# Altium footprint library LHBP-9SLOT-VP1.PcbLib: 14 footprints
Each footprint in its own frame and in the unit in brackets; x right, y up, seen from the top. Pads: shape width x height; smd on the part's side, far side on the other; paste and mask are expansions set on the pad; w line width, h text height; cw(c..) or ccw(c..) is an arc to the next point about the centre after c.
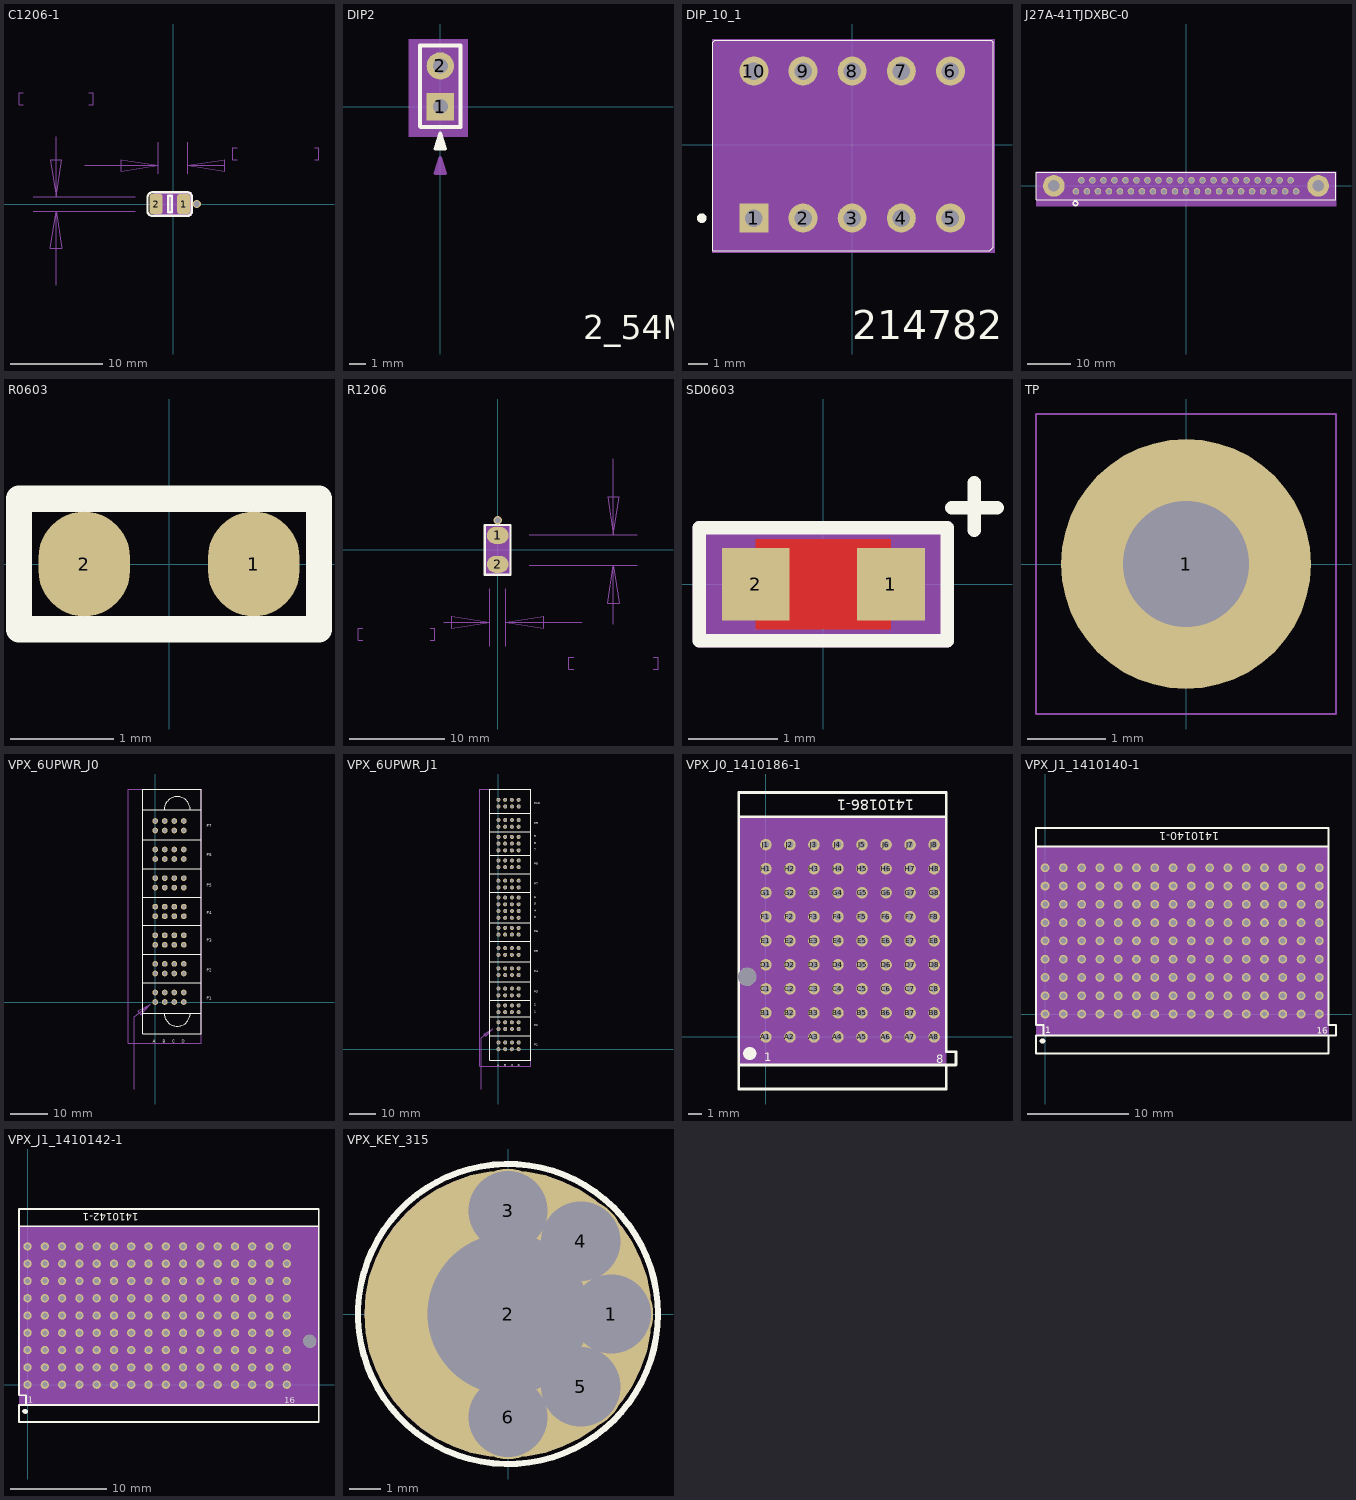
[diagram p0: the footprints below, top view; thin cyan lines are the x and y axes]

## C1206-1 [mil] "C1206-1"
pads (2):
  rrect36% 55x85 smd: 1(45.28,0) 2(-72.84,0)
via 100.78,0 diameter 36 hole 24
Top Layer:
  lines w12: 45.28,0 100.78,0
Top Overlay:
  lines w9.84: -60.78,-50.5 -88.34,-50.5 cw(c-88.34,-29.55) -109.29,-29.55 -109.29,27.4 cw(c-86.19,27.4) -86.19,50.5 -60.78,50.5
  lines w10: -60.78,-50.5 60.78,-50.5 ccw(c60.78,-30.5) 80.78,-30.5 80.78,30.5 ccw(c60.78,30.5) 60.78,50.5 -60.78,50.5 ; -21.18,-35 -21.18,35 -5.44,35 -5.44,-35 -21.18,-35
Mechanical 15:
  lines w1: -639.95,425 -658.94,425 -658.94,475 -639.95,475 ; -598.43,-31.5 -161.42,-31.5 ; -598.43,31.5 -161.42,31.5 ; -500,-346.46 -500,-31.5 ; -500,287.5 -500,31.5 ; -377.95,165 -62.99,165 ; -360.04,425 -341.05,425 -341.05,475 -360.04,475 ; -62.99,129.93 -62.99,263.43 ; 62.99,129.93 62.99,263.43 ; 218.07,165 62.99,165 ; 274.56,190 255.57,190 255.57,240 274.56,240 ; 605.45,190 624.44,190 624.44,240 605.45,240 ; -500,-31.5 -475.4,-188.98 -524.6,-188.98 -500,-31.5 ; -500,31.5 -524.6,188.98 -475.4,188.98 -500,31.5 ; -62.99,165 -220.47,140.4 -220.47,189.6 -62.99,165 ; 62.99,165 220.47,189.6 220.47,140.4 62.99,165
  text "63.00" at -379.04,475 h50
  text "1.6" at -430.02,375 h50
  text "125.98" at 586.45,240 h50
  text "3.2" at 509.98,140 h50
Mechanical 16:
  region: 62.99,31.5 62.99,-31.5 -62.99,-31.5 -62.99,31.5
  pour cut-out: 80.78,50.5 80.78,-50.5 -80.78,-50.5 -80.78,50.5
  lines w1: -62.99,-31.5 -62.99,31.5 62.99,31.5 62.99,-31.5 -62.99,-31.5
  text "1" at 35.28,0 h25
  text "2" at -82.84,0 h25
Mechanical 20:
  text ".Designator" at -40,0 h50
3D body: height 150, standoff 0, extent -62.99,-31.5 62.99,31.5

## DIP2 [mm] "DIP2"
pads (2):
  rect 1.7x1.7 hole 0.94: 1(0,0)
  round 1.7 hole 0.94: 2(0,2.54)
Top Overlay:
  lines w0.203: -0.127,-2.642 0,-1.651 ; 0.076,-2.642 0,-1.651 ; 0.279,-2.642 0,-1.651 ; 0,-1.651 0.33,-2.642 -0.33,-2.642 0,-1.651
  lines w0.254: -1.27,-1.219 -1.27,3.81 1.27,3.81 1.27,-1.27 -1.219,-1.27 -1.27,-1.219
  text "2_54MM Header/NC" at 8.89,-14.468 h1.5
Mechanical 16:
  region: -1.956,4.216 -1.956,-1.88 1.702,-1.88 1.702,4.216
  lines w0.203: -0.127,-4.166 0,-3.175 ; 0.076,-4.166 0,-3.175 ; 0.279,-4.166 0,-3.175 ; 0,-3.175 0.33,-4.166 -0.33,-4.166 0,-3.175
  text "2" at 0,2.134 h1.02
  text "1" at 0,-0.406 h1.02
Mechanical 20:
  text "pn" at 0,-0.528 h0.41
  text "RichardLC" at 0,-1.666 h0.41
  text "2_54MM Header/NC" at 0,-2.804 h0.41
  text ".Designator" at 0,-0.691 h0.41
3D body: height 3.81, standoff 0, extent -1.956,-1.88 1.702,4.216

## DIP_10_1 [mm] "DIP_10_1"
pads (10):
  rect 1.5x1.5 hole 0.9: 1(-5.08,-3.8)
  round 1.5 hole 0.9: 2(-2.54,-3.8) 3(0,-3.8) 4(2.54,-3.8) 5(5.08,-3.8) 6(5.08,3.8) 7(2.54,3.8) 8(0,3.8) 9(-2.54,3.8) 10(-5.08,3.8)
Top Overlay:
  circle w0.25: c-7.777,-3.8 r0.125
  lines w0.025: -7.2,-5.5 7.1,-5.5 7.3,-5.3 7.3,5.3 7.2,5.4 -7.1,5.4 -7.2,5.3 -7.2,-5.5
  text "214782" at 0,-10.05 h1.5
Mechanical 16:
  region: -7.239,-5.588 7.366,-5.588 7.366,5.461 -7.239,5.461
  lines w0.025: -6.5,-4.25 -6.5,4.25 6.5,4.25 6.5,-4.25 -6.5,-4.25
  lines w0.2: -6.5,-4.3 -6.5,-0.6 ccw(c-6.5,0) -6.5,0.6 -6.5,4.3 6.5,4.3 6.5,-4.3 -6.5,-4.3
  text "10" at -5.08,3.48 h0.4
  text "9" at -2.54,3.64 h0.4
  text "8" at 0,3.64 h0.4
  text "7" at 2.54,3.64 h0.4
  text "6" at 5.08,3.64 h0.4
  text "5" at 5.08,-3.96 h0.4
  text "4" at 2.54,-3.96 h0.4
  text "3" at 0,-3.96 h0.4
  text "2" at -2.54,-3.96 h0.4
  text "1" at -5.08,-3.96 h0.4
Mechanical 20:
  text "pn" at 0,-0.52 h0.4
  text "RichardLC" at 0,-1.64 h0.4
  text "214782" at 0,-1.16 h0.4
  text ".Designator" at 0,-0.52 h0.4
3D body: height 3.81, standoff 0, extent -7.239,-5.588 7.366,5.461

## J27A-41TJDXBC-0 [mm] "J27A-41TJDXBC-0"
pads (43):
  round 1.5 hole 1.15: 1(-25.4,-1.27) 2(-24.13,1.27) 3(-22.86,-1.27) 4(-21.59,1.27) 5(-20.32,-1.27) 6(-19.05,1.27) 7(-17.78,-1.27) 8(-16.51,1.27) 9(-15.24,-1.27) 10(-13.97,1.27) 11(-12.7,-1.27) 12(-11.43,1.27) 13(-10.16,-1.27) 14(-8.89,1.27) 15(-7.62,-1.27) 16(-6.35,1.27) 17(-5.08,-1.27) 18(-3.81,1.27) 19(-2.54,-1.27) 20(-1.27,1.27) 21(0,-1.27) 22(1.27,1.27) 23(2.54,-1.27) 24(3.81,1.27) 25(5.08,-1.27) 26(6.35,1.27) 27(7.62,-1.27) 28(8.89,1.27) 29(10.16,-1.27) 30(11.43,1.27) 31(12.7,-1.27) 32(13.97,1.27) 33(15.24,-1.27) 34(16.51,1.27) 35(17.78,-1.27) 36(19.05,1.27) 37(20.32,-1.27) 38(21.59,1.27) 39(22.86,-1.27) 40(24.13,1.27) 41(25.4,-1.27)
  round 5 hole 2.7: " "(-30.48,0) " "(30.48,0)
Top Overlay:
  circle w0.3: c-25.5,-4.04 r0.502
  lines w0.2: -34.5,-3.15 -34.5,3.15 34.5,3.15 34.5,-3.15 -34.5,-3.15
Mechanical 16:
  region: -34.6,-4.692 -34.6,3.25 34.6,3.25 34.6,-4.692
  text "24" at 3.81,1.778 h0.64
  text "23" at 2.54,-0.762 h0.64
  text "22" at 1.27,1.778 h0.64
  text "21" at 0,-0.762 h0.64
  text "40" at 24.13,1.778 h0.64
  text "38" at 21.59,1.778 h0.64
  text "41" at 25.4,-0.762 h0.64
  text "39" at 22.86,-0.762 h0.64
  text "35" at 17.78,-0.762 h0.64
  text "20" at -1.27,1.778 h0.64
  text "19" at -2.54,-0.762 h0.64
  text "16" at -6.35,1.778 h0.64
  text "15" at -7.62,-0.762 h0.64
  text "4" at -21.59,1.524 h0.64
  text "2" at -24.13,1.524 h0.64
  text "3" at -22.86,-1.016 h0.64
  text "1" at -25.4,-1.016 h0.64
  text "6" at -19.05,1.524 h0.64
  text "5" at -20.32,-1.016 h0.64
  text "37" at 20.32,-0.762 h0.64
  text "36" at 19.05,1.778 h0.64
  text "12" at -11.43,1.778 h0.64
  text "11" at -12.7,-0.762 h0.64
  text "14" at -8.89,1.778 h0.64
  text "13" at -10.16,-0.762 h0.64
  text "8" at -16.51,1.524 h0.64
  text "7" at -17.78,-1.016 h0.64
  text "18" at -3.81,1.778 h0.64
  text "17" at -5.08,-0.762 h0.64
  text "10" at -13.97,1.778 h0.64
  text "9" at -15.24,-1.016 h0.64
  text "34" at 16.51,1.778 h0.64
  text "33" at 15.24,-0.762 h0.64
  text "32" at 13.97,1.778 h0.64
  text "31" at 12.7,-0.762 h0.64
  text "30" at 11.43,1.778 h0.64
  text "29" at 10.16,-0.762 h0.64
  text "28" at 8.89,1.778 h0.64
  text "27" at 7.62,-0.762 h0.64
  text "26" at 6.35,1.778 h0.64
  text "25" at 5.08,-0.762 h0.64
Mechanical 20:
  text ".Designator" at -1,4.2 h0.64
3D body: height 3.81, standoff 0, extent -34.6,-4.692 34.6,3.25

## R0603 [mil] "R0603"
pads (2):
  oval 35x40.2 smd: 1(32.5,0) 2(-32.5,0)
Top Overlay:
  lines w10: -57.5,-25 -57.5,25 57.5,25 57.5,-25 -57.5,-25
Mechanical 16:
  lines w1: -57.5,-25 57.5,-25 ; -57.5,-25 -57.5,25 ; -57.5,-25 57.5,-25 ; -57.5,-25 -57.5,25 ; -57.5,25 57.5,25 ; -57.5,25 57.5,25 ; 57.5,-25 57.5,25 ; 57.5,-25 57.5,25
  text "2" at -42.5,0 h25
  text "1" at 22.5,0 h25
Mechanical 20:
  text ".Designator" at 69.49,21.44 h25

## R1206 [mil] "R1206"
pads (2):
  oval 90x70 smd: 1(0,60) 2(0,-60)
via 0,123 diameter 36 hole 24
Top Overlay:
  lines w10: -53,-103 53,-103 53,103 -53,103 -53,-103
Mechanical 15:
  lines w1: -560,-375 -579,-375 -579,-325 -560,-325 ; -280,-375 -261,-375 -261,-325 -280,-325 ; -223.5,-300 -32.48,-300 ; -32.48,-398.43 -32.48,-161.42 ; 32.48,-398.43 32.48,-161.42 ; 130.91,-62.99 578.43,-62.99 ; 130.91,62.99 578.43,62.99 ; 314.5,-495 295.5,-495 295.5,-445 314.5,-445 ; 347.44,-300 32.48,-300 ; 480,-307.5 480,-62.99 ; 480,377.95 480,62.99 ; 645.5,-495 664.5,-495 664.5,-445 645.5,-445 ; -32.48,-300 -189.96,-324.6 -189.96,-275.4 -32.48,-300 ; 32.48,-300 189.96,-275.4 189.96,-324.6 32.48,-300 ; 480,-62.99 504.6,-220.47 455.4,-220.47 480,-62.99 ; 480,62.99 455.4,220.47 504.6,220.47 480,62.99
  text "125.98" at 333.5,-495 h30
  text "3.2" at 410,-395 h30
  text "64.96" at -541,-375 h30
  text "1.65" at -515.5,-275 h30
Mechanical 16:
  region: -32.48,-62.99 -32.48,62.99 32.48,62.99 32.48,-62.99
  pour cut-out: -53,-103 -53,103 53,103 53,-103
  lines w1: -32.48,-62.99 32.48,-62.99 32.48,62.99 -32.48,62.99 -32.48,-62.99
  text "1" at 0,71.2 h28
  text "2" at 0,-48.8 h28
Mechanical 20:
  text ".Designator" at 0,48 h30
3D body: height 150, standoff 0, extent -32.48,-62.99 32.48,62.99

## SD0603 [mil] "SD0603"
pads (2):
  rect 30x32 smd: 1(30,0) 2(-30,0)
Top Layer:
  region: 30,20 30,-20 -30,-20 -30,20
  region: 10,20 10,-20 -10,-20 -10,20
Top Overlay:
  lines w6: 57,34 77,34 ; 67,24 67,45 ; -55,-25 55,-25 55,25 -55,25 -55,-25
Mechanical 16:
  region: 56,25 56,-27 -56,-27 -56,25
  lines w6: -55,-25 55,-25 55,25 -55,25 -55,-25
  text "1" at 26,0 h10
  text "2" at -34,0 h10
Mechanical 20:
  text ".Designator" at -59,-148 h50
  text "LED_0_SD0603_IC_LED_YELLOW" at 241,-148 h50
  text "SD0603" at 66,-209 h50
3D body: height 150, standoff 0, extent -56,-27 56,25

## TP [mil] "TP"
pads (1):
  round 125 hole 63: 1(0,0)
Bottom Overlay:
  text ".Designator" at 746,1996.33 h50
Mechanical 16:
  lines w1: -75,-75 75,-75 75,75 -75,75 -75,-75
  text "1" at -20,0 h25
Mechanical 18:
  text ".Designator" at -75,-25 h63

## VPX_6UPWR_J0 [mil] "VPX_6UPWR_J0"
pads (56):
  round 60 hole 40: P1_1(0,100) P1_2(100,100) P1_3(200,100) P1_4(300,100) P1_5(0,0) P1_6(100,0) P1_7(200,0) P1_8(300,0) P2_1(0,400) P2_2(100,400) P2_3(200,400) P2_4(300,400) P2_5(0,300) P2_6(100,300) P2_7(200,300) P2_8(300,300) P3_1(0,700) P3_2(100,700) P3_3(200,700) P3_4(300,700) P3_5(0,600) P3_6(100,600) P3_7(200,600) P3_8(300,600) P4_1(0,1000) P4_2(100,1000) P4_3(200,1000) P4_4(300,1000) P4_5(0,900) P4_6(100,900) P4_7(200,900) P4_8(300,900) P5_1(0,1300) P5_2(100,1300) P5_3(200,1300) P5_4(300,1300) P5_5(0,1200) P5_6(100,1200) P5_7(200,1200) P5_8(300,1200) P6_1(0,1600) P6_2(100,1600) P6_3(200,1600) P6_4(300,1600) P6_5(0,1500) P6_6(100,1500) P6_7(200,1500) P6_8(300,1500) P7_1(0,1900) P7_2(100,1900) P7_3(200,1900) P7_4(300,1900) P7_5(0,1800) P7_6(100,1800) P7_7(200,1800) P7_8(300,1800)
Top Overlay:
  lines w10: -129,-116 481,-116 ; -129,200 481,200 ; -129,500 481,500 ; -129,803 477,803 ; -129,1100 481,1100 ; -129,1400 481,1400 ; -129,1700 481,1700 ; -129,2016 481,2016 ; 93.04,-116 ccw(c230.83,-116) 368.63,-116 ; 93.04,2016 cw(c230.83,2016) 368.63,2016 ; -129,-335 481,-335 481,2235 -129,2235 -129,-335
  text ".Designator" at 699.51,877.28 h35
  text "A" at -24,-427.69 h31
  text "P7" at 539,1833.71 h31
  text "P6" at 539,1528.59 h31
  text "P5" at 539,1211.8 h31
  text "P4" at 539,922.22 h31
  text "P3" at 539,631.64 h31
  text "P2" at 539,318 h31
  text "P1" at 539,23 h31
  text "D" at 279,-427.69 h31
  text "C" at 178,-427.69 h31
  text "B" at 77,-427.69 h31
Bottom Overlay:
  lines w10: -130,-231.86 -130,-190.86 ; -130,-135 -130,-94 ; -130,-38.14 -130,2.86 ; -130,58.72 -130,99.72 ; -130,155.59 -130,196.59 ; -130,252.45 -130,293.45 ; -130,349.31 -130,390.31 ; -130,446.17 -130,487.17 ; -130,543.03 -130,584.03 ; -130,639.9 -130,680.9 ; -130,736.76 -130,777.76 ; -130,833.62 -130,874.62 ; -130,930.48 -130,971.48 ; -130,1027.34 -130,1068.34 ; -130,1124.21 -130,1165.21 ; -130,1221.07 -130,1262.07 ; -130,1317.93 -130,1358.93 ; -130,1414.79 -130,1455.79 ; -130,1511.65 -130,1552.65 ; -130,1608.52 -130,1649.52 ; -130,1705.38 -130,1746.38 ; -130,1802.24 -130,1843.24 ; -130,1899.1 -130,1940.1 ; -130,1995.96 -130,2036.96 ; -130,2092.83 -130,2133.83 -130,2137.39 -130,2096.39 ; -130,2189.69 -130,2230.69 -130,2234.25 ; -130,2193.25 -130,2234.25 ; -127.95,-293.65 -127.95,-334.65 -86.95,-334.65 ; -89,803 -48,803 ; -89,1103 -48,1103 ; -89,1403 -48,1403 ; -89,1703 -48,1703 ; -89,2234.25 -130,2234.25 ; -87,200 -46,200 ; -83,500 -42,500 ; -35,2234.25 6,2234.25 ; -32.95,-334.65 8.05,-334.65 ; 9.6,803 50.6,803 ; 9.6,1103 50.6,1103 ; 9.6,1403 50.6,1403 ; 9.6,1703 50.6,1703 ; 11.6,200 52.6,200 ; 15.6,500 56.6,500 ; 60,2234.25 101,2234.25 ; 62.05,-334.65 103.05,-334.65 ; 108.2,803 149.2,803 ; 108.2,1103 149.2,1103 ; 108.2,1403 149.2,1403 ; 108.2,1703 149.2,1703 ; 110.2,200 151.2,200 ; 114.2,500 155.2,500 ; 155,2234.25 196,2234.25 ; 157.05,-334.65 198.05,-334.65 ; 206.8,803 247.8,803 ; 206.8,1103 247.8,1103 ; 206.8,1403 247.8,1403 ; 206.8,1703 247.8,1703 ; 208.8,200 249.8,200 ; 212.8,500 253.8,500 ; 250,2234.25 291,2234.25 ; 252.05,-334.65 293.05,-334.65 ; 305.4,803 346.4,803 ; 305.4,1103 346.4,1103 ; 305.4,1403 346.4,1403 ; 305.4,1703 346.4,1703 ; 307.4,200 348.4,200 ; 311.4,500 352.4,500 ; 345,2234.25 386,2234.25 ; 347.05,-334.65 388.05,-334.65 ; 404,803 445,803 ; 404,1103 445,1103 ; 404,1403 445,1403 ; 404,1703 445,1703 ; 406,200 447,200 ; 410,500 451,500 ; 440,2234.25 481,2234.25 ; 442.05,-334.65 483.05,-334.65 483.05,-293.65 ; 481,-231.86 481,-190.86 ; 481,-135 481,-94 ; 481,-38.14 481,2.86 ; 481,58.72 481,99.72 ; 481,155.59 481,196.59 ; 481,252.45 481,293.45 ; 481,349.31 481,390.31 ; 481,446.17 481,487.17 ; 481,543.03 481,584.03 ; 481,639.9 481,680.9 ; 481,736.76 481,777.76 ; 481,833.62 481,874.62 ; 481,930.48 481,971.48 ; 481,1027.34 481,1068.34 ; 481,1124.21 481,1165.21 ; 481,1221.07 481,1262.07 ; 481,1317.93 481,1358.93 ; 481,1414.79 481,1455.79 ; 481,1511.65 481,1552.65 ; 481,1608.52 481,1649.52 ; 481,1705.38 481,1746.38 ; 481,1802.24 481,1843.24 ; 481,1899.1 481,1940.1 ; 481,1995.96 481,2036.96 ; 481,2092.83 481,2133.83 481,2137.39 481,2096.39 ; 481,2189.69 481,2230.69 481,2234.25 ; 481,2193.25 481,2234.25
  text "P7" at -154.73,1833.71 h31
  text "A" at -2,-409.54 h31
  text "B" at 99,-409.54 h31
  text "C" at 202,-409.54 h31
  text "D" at 300,-409.54 h31
  text "P1" at -154.73,23 h31
  text "P2" at -154.73,318 h31
  text "P3" at -154.73,631.64 h31
  text "P4" at -154.73,922.22 h31
  text "P5" at -154.73,1211.8 h31
  text "P6" at -154.73,1528.59 h31
Mechanical 15:
  lines w1: -218.25,-912.8 -218.25,-152.3 -49.7,-21.7 ; -49.7,-21.7 -152.96,-133.34 -183.58,-93.81 -49.7,-21.7
  text "FINISHED HOLE DIA.:1.016mm+/-0.08mm" at -293.31,-908.01 h31
  text "DRILL HOLE DIA.:1.15mm+/-0.02mm" at -242.13,-908.01 h31
Mechanical 16:
  lines w1: -281,-434.54 483.05,-434.54 ; -281,-434.54 -281,2235 ; -281,-434.54 483.05,-434.54 ; -281,-434.54 -281,2235 ; -281,2235 483.05,2235 ; -281,2235 483.05,2235 ; 483.05,-434.54 483.05,2235 ; 483.05,-434.54 483.05,2235
  text "P5_1" at -16,1300 h10
  text "P5_2" at 84,1300 h10
  text "P5_3" at 184,1300 h10
  text "P5_4" at 284,1300 h10
  text "P5_5" at -16,1200 h10
  text "P5_6" at 84,1200 h10
  text "P5_7" at 184,1200 h10
  text "P5_8" at 284,1200 h10
  text "P4_2" at 84,1000 h10
  text "P4_3" at 184,1000 h10
  text "P4_4" at 284,1000 h10
  text "P4_5" at -16,900 h10
  text "P4_6" at 84,900 h10
  text "P4_7" at 184,900 h10
  text "P4_8" at 284,900 h10
  text "P4_1" at -16,1000 h10
  text "P6_1" at -16,1600 h10
  text "P6_2" at 84,1600 h10
  text "P6_3" at 184,1600 h10
  text "P6_4" at 284,1600 h10
  text "P6_5" at -16,1500 h10
  text "P6_6" at 84,1500 h10
  text "P6_7" at 184,1500 h10
  text "P6_8" at 284,1500 h10
  text "P7_2" at 84,1900 h10
  text "P7_3" at 184,1900 h10
  text "P7_4" at 284,1900 h10
  text "P7_5" at -16,1800 h10
  text "P7_6" at 84,1800 h10
  text "P7_7" at 184,1800 h10
  text "P7_8" at 284,1800 h10
  text "P7_1" at -16,1900 h10
  text "P1_5" at -16,0 h10
  text "P1_6" at 84,0 h10
  text "P1_7" at 184,0 h10
  text "P1_8" at 284,0 h10
  text "P1_4" at 284,100 h10
  text "P1_3" at 184,100 h10
  text "P1_2" at 84,100 h10
  text "P1_1" at -16,100 h10
  text "P3_8" at 284,600 h10
  text "P3_7" at 184,600 h10
  text "P3_6" at 84,600 h10
  text "P3_5" at -16,600 h10
  text "P3_4" at 284,700 h10
  text "P3_3" at 184,700 h10
  text "P3_2" at 84,700 h10
  text "P3_1" at -16,700 h10
  text "P2_8" at 284,300 h10
  text "P2_7" at 184,300 h10
  text "P2_6" at 84,300 h10
  text "P2_5" at -16,300 h10
  text "P2_4" at 284,400 h10
  text "P2_3" at 184,400 h10
  text "P2_2" at 84,400 h10
  text "P2_1" at -16,400 h10
Mechanical 18:
  text "HAMP" at -49.6,-16 h31
  text "#TOL" at -49.6,-16 h31
  text "powerP0_0727" at -148.8,-16 h31

## VPX_6UPWR_J1 [mil] "VPX_6UPWR_J1"
pads (116):
  round 60 hole 40: A1(0,550) A2(0,650) A3(0,1950) A4(0,2050) A5(0,2150) A6(0,2250) A7(0,2950) A8(0,3050) A9(0,3150) B1(100,550) B2(100,650) B3(100,1950) B4(100,2050) B5(100,2150) B6(100,2250) B7(100,2950) B8(100,3050) B9(100,3150) C1(200,550) C2(200,650) C3(200,1950) C4(200,2050) C5(200,2150) C6(200,2250) C7(200,2950) C8(200,3050) C9(200,3150) D1(300,550) D2(300,650) D3(300,1950) D4(300,2050) D5(300,2150) D6(300,2250) D7(300,2950) D8(300,3050) D9(300,3150) P1_1(0,100) P1_2(100,100) P1_3(200,100) P1_4(300,100) P1_5(0,0) P1_6(100,0) P1_7(200,0) P1_8(300,0) P2_1(0,400) P2_2(100,400) P2_3(200,400) P2_4(300,400) P2_5(0,300) P2_6(100,300) P2_7(200,300) P2_8(300,300) P3_1(0,900) P3_2(100,900) P3_3(200,900) P3_4(300,900) P3_5(0,800) P3_6(100,800) P3_7(200,800) P3_8(300,800) P4_1(0,1200) P4_2(100,1200) P4_3(200,1200) P4_4(300,1200) P4_5(0,1100) P4_6(100,1100) P4_7(200,1100) P4_8(300,1100) P5_1(0,1500) P5_2(100,1500) P5_3(200,1500) P5_4(300,1500) P5_5(0,1400) P5_6(100,1400) P5_7(200,1400) P5_8(300,1400) P6_1(0,1800) P6_2(100,1800) P6_3(200,1800) P6_4(300,1800) P6_5(0,1700) P6_6(100,1700) P6_7(200,1700) P6_8(300,1700) P7_1(0,2500) P7_2(100,2500) P7_3(200,2500) P7_4(300,2500) P7_5(0,2400) P7_6(100,2400) P7_7(200,2400) P7_8(300,2400) P8_1(0,2800) P8_2(100,2800) P8_3(200,2800) P8_4(300,2800) P8_5(0,2700) P8_6(100,2700) P8_7(200,2700) P8_8(300,2700) P9_1(0,3400) P9_2(100,3400) P9_3(200,3400) P9_4(300,3400) P9_5(0,3300) P9_6(100,3300) P9_7(200,3300) P9_8(300,3300) P10_1(0,3700) P10_2(100,3700) P10_3(200,3700) P10_4(300,3700) P10_5(0,3600) P10_6(100,3600) P10_7(200,3600) P10_8(300,3600)
Top Overlay:
  lines w10: -129,200 481,200 ; -129,480.31 481,480.31 ; -129,724.26 477,724.26 ; -129,1000 481,1000 ; -129,1300 481,1300 ; -129,1600 481,1600 ; -129,1875 481,1875 ; -129,2325 481,2325 ; -129,2600 481,2600 ; -129,2875 481,2875 ; -129,3225 481,3225 ; -129,3500 481,3500 ; -129,-160 -129,3860 -127.95,3860 481,3860 481,-157.48 481,-160 -127.95,-160 -129,-160
  text ".Designator" at 699.51,1970.2 h35
  text "9" at 529,3142 h31
  text "P10" at 529,3636.6 h31
  text "P9" at 529,3336.6 h31
  text "P8" at 529,2736.6 h31
  text "P7" at 529,2436.6 h31
  text "P6" at 529,1736.6 h31
  text "P5" at 529,1438.04 h31
  text "P4" at 529,1139.49 h31
  text "P3" at 529,840.93 h31
  text "P2" at 529,343 h31
  text "P1" at 529,48 h31
  text "D" at 289,-250.53 h31
  text "C" at 188,-250.53 h31
  text "B" at 87,-250.53 h31
  text "A" at -14,-250.53 h31
  text "2" at 529,642.57 h31
  text "1" at 529,542 h31
  text "4" at 529,2042.57 h31
  text "3" at 529,1942 h31
  text "6" at 529,2242.57 h31
  text "5" at 529,2142 h31
  text "8" at 529,3042.57 h31
  text "7" at 529,2942 h31
Bottom Overlay:
  drawing of 188 lines, arcs and shapes, not listed
  text "9" at -157.54,3129 h31
  text "7" at -157.54,2929 h31
  text "8" at -157.54,3029.57 h31
  text "5" at -157.54,2129 h31
  text "6" at -157.54,2229.57 h31
  text "3" at -157.54,1929 h31
  text "4" at -157.54,2029.57 h31
  text "1" at -157.54,529 h31
  text "2" at -157.54,629.57 h31
  text "P1" at -157.54,35 h31
  text "P2" at -157.54,330 h31
  text "P3" at -157.54,827.93 h31
  text "P4" at -157.54,1126.49 h31
  text "P5" at -157.54,1425.04 h31
  text "P6" at -157.54,1723.6 h31
  text "P7" at -157.54,2423.6 h31
  text "P8" at -157.54,2723.6 h31
  text "P9" at -157.54,3323.6 h31
  text "P10" at -157.54,3623.2 h31
  text "A" at -2,-232.53 h31
  text "B" at 99,-232.53 h31
  text "C" at 202,-232.53 h31
  text "D" at 300,-232.53 h31
Mechanical 15:
  lines w1: -255.95,-589.9 -255.95,170.6 -87.4,301.2 ; -87.4,301.2 -190.66,189.56 -221.28,229.09 -87.4,301.2
  text "DRILL HOLE DIA.:1.15mm+/-0.02mm" at -279.83,-585.11 h31
  text "FINISHED HOLE DIA.:1.016mm+/-0.08mm" at -331.01,-585.11 h31
Mechanical 16:
  lines w1: -276,-250.53 482.28,-250.53 ; -276,-250.53 -276,3860 ; -276,-250.53 482.28,-250.53 ; -276,-250.53 -276,3860 ; -276,3860 482.28,3860 ; -276,3860 482.28,3860 ; 482.28,-250.53 482.28,3860 ; 482.28,-250.53 482.28,3860
  text "B5" at 92,2150 h10
  text "A5" at -8,2150 h10
  text "B2" at 92,650 h10
  text "A8" at -8,3050 h10
  text "B8" at 92,3050 h10
  text "D7" at 292,2950 h10
  text "P8_1" at -16,2800 h10
  text "P8_2" at 84,2800 h10
  text "P8_3" at 184,2800 h10
  text "P8_4" at 284,2800 h10
  text "P8_5" at -16,2700 h10
  text "P8_6" at 84,2700 h10
  text "P8_7" at 184,2700 h10
  text "P8_8" at 284,2700 h10
  text "P7_1" at -16,2500 h10
  text "P7_2" at 84,2500 h10
  text "P7_3" at 184,2500 h10
  text "P7_4" at 284,2500 h10
  text "P7_5" at -16,2400 h10
  text "P7_6" at 84,2400 h10
  text "P7_7" at 184,2400 h10
  text "P7_8" at 284,2400 h10
  text "P4_1" at -16,1200 h10
  text "P4_2" at 84,1200 h10
  text "P4_3" at 184,1200 h10
  text "P4_4" at 284,1200 h10
  text "P4_5" at -16,1100 h10
  text "P4_6" at 84,1100 h10
  text "P4_7" at 184,1100 h10
  text "P4_8" at 284,1100 h10
  text "P3_1" at -16,900 h10
  text "P3_2" at 84,900 h10
  text "P3_3" at 184,900 h10
  text "P3_4" at 284,900 h10
  text "P3_5" at -16,800 h10
  text "P3_6" at 84,800 h10
  text "P3_7" at 184,800 h10
  text "P3_8" at 284,800 h10
  text "P1_5" at -16,0 h10
  text "P1_6" at 84,0 h10
  text "P1_7" at 184,0 h10
  text "P1_8" at 284,0 h10
  text "P1_4" at 284,100 h10
  text "P1_3" at 184,100 h10
  text "P1_2" at 84,100 h10
  text "P1_1" at -16,100 h10
  text "P10_1" at -20,3700 h10
  text "P10_2" at 80,3700 h10
  text "P10_3" at 180,3700 h10
  text "P10_4" at 280,3700 h10
  text "P10_5" at -20,3600 h10
  text "P10_6" at 80,3600 h10
  text "P10_7" at 180,3600 h10
  text "P10_8" at 280,3600 h10
  text "P9_1" at -16,3400 h10
  text "P9_2" at 84,3400 h10
  text "P9_3" at 184,3400 h10
  text "P9_4" at 284,3400 h10
  text "P9_5" at -16,3300 h10
  text "P9_6" at 84,3300 h10
  text "P9_7" at 184,3300 h10
  text "P9_8" at 284,3300 h10
  text "A9" at -8,3150 h10
  text "B9" at 92,3150 h10
  text "P2_8" at 284,300 h10
  text "P2_7" at 184,300 h10
  text "P2_6" at 84,300 h10
  text "P2_5" at -16,300 h10
  text "P2_4" at 284,400 h10
  text "P2_3" at 184,400 h10
  text "P2_2" at 84,400 h10
  text "P2_1" at -16,400 h10
  text "C2" at 192,650 h10
  text "D2" at 292,650 h10
  text "D4" at 292,2050 h10
  text "C4" at 192,2050 h10
  text "A4" at -8,2050 h10
  text "P6_1" at -16,1800 h10
  text "P6_2" at 84,1800 h10
  text "P6_3" at 184,1800 h10
  text "P6_4" at 284,1800 h10
  text "P6_5" at -16,1700 h10
  text "P6_6" at 84,1700 h10
  text "P6_7" at 184,1700 h10
  text "P6_8" at 284,1700 h10
  text "P5_1" at -16,1500 h10
  text "P5_2" at 84,1500 h10
  text "P5_3" at 184,1500 h10
  text "P5_4" at 284,1500 h10
  text "P5_5" at -16,1400 h10
  text "P5_6" at 84,1400 h10
  text "P5_7" at 184,1400 h10
  text "P5_8" at 284,1400 h10
  text "B4" at 92,2050 h10
  text "B3" at 92,1950 h10
  text "A3" at -8,1950 h10
  text "D9" at 292,3150 h10
  text "D8" at 292,3050 h10
  text "D6" at 292,2250 h10
  text "D5" at 292,2150 h10
  text "D3" at 292,1950 h10
  text "D1" at 292,550 h10
  text "C9" at 192,3150 h10
  text "C8" at 192,3050 h10
  text "C7" at 192,2950 h10
  text "C6" at 192,2250 h10
  text "C5" at 192,2150 h10
  text "C3" at 192,1950 h10
  text "C1" at 192,550 h10
  text "B6" at 92,2250 h10
  text "B1" at 92,550 h10
  text "A6" at -8,2250 h10
  text "A2" at -8,650 h10
  text "A1" at -8,550 h10
  text "B7" at 92,2950 h10
  text "A7" at -8,2950 h10
Mechanical 18:
  text "HAMP" at -49.6,-16 h31
  text "#TOL" at -49.6,-16 h31
  text "powerP1_0727" at -148.8,-16 h31

## VPX_J0_1410186-1 [mil] "VPX_J0_1410186-1"
pads (73):
  round 45 hole 55: " "(-54.72,177.16)
  round 34 hole 21: A1(0,0) A2(70.87,0) A3(141.73,0) A4(212.6,0) A5(283.46,0) A6(354.33,0) A7(425.2,0) A8(496.06,0) B1(0,70.87) B2(70.87,70.87) B3(141.73,70.87) B4(212.6,70.87) B5(283.46,70.87) B6(354.33,70.87) B7(425.2,70.87) B8(496.06,70.87) C1(0,141.73) C2(70.87,141.73) C3(141.73,141.73) C4(212.6,141.73) C5(283.46,141.73) C6(354.33,141.73) C7(425.2,141.73) C8(496.06,141.73) D1(0,212.6) D2(70.87,212.6) D3(141.73,212.6) D4(212.6,212.6) D5(283.46,212.6) D6(354.33,212.6) D7(425.2,212.6) D8(496.06,212.6) E1(0,283.46) E2(70.87,283.46) E3(141.73,283.46) E4(212.6,283.46) E5(283.46,283.46) E6(354.33,283.46) E7(425.2,283.46) E8(496.06,283.46) F1(0,354.33) F2(70.87,354.33) F3(141.73,354.33) F4(212.6,354.33) F5(283.46,354.33) F6(354.33,354.33) F7(425.2,354.33) F8(496.06,354.33) G1(0,425.2) G2(70.87,425.2) G3(141.73,425.2) G4(212.6,425.2) G5(283.46,425.2) G6(354.33,425.2) G7(425.2,425.2) G8(496.06,425.2) H1(0,496.06) H2(70.87,496.06) H3(141.73,496.06) H4(212.6,496.06) H5(283.46,496.06) H6(354.33,496.06) H7(425.2,496.06) H8(496.06,496.06) J1(0,566.93) J2(70.87,566.93) J3(141.73,566.93) J4(212.6,566.93) J5(283.46,566.93) J6(354.33,566.93) J7(425.2,566.93) J8(496.06,566.93)
Top Overlay:
  lines w7.87: -79.92,-82.68 531.89,-82.68 ; -79.92,649.61 -79.92,720.47 531.89,720.47 531.89,649.61 ; -79.92,649.61 -79.92,-153.54 531.89,-153.54 531.89,-82.68 ; -79.92,649.61 531.89,649.61 ; 531.89,-82.68 560.63,-82.68 560.63,-43.31 531.89,-43.31 531.89,649.61
  lines w39.37: -48,-49 -47,-49
  text "1410186-1" at 438,700 h31
  text "1" at -5,-72 h25
  text "8" at 502,-77 h25
Bottom Overlay:
  lines w8: -60,-85 -80,-85 -80,650 -60,650 ; -35,-85 -15,-85 ; -35,650 -15,650 ; 10,-85 30,-85 ; 10,650 30,650 ; 55,-85 75,-85 ; 55,650 75,650 ; 100,-85 120,-85 ; 100,650 120,650 ; 145,-85 165,-85 ; 145,650 165,650 ; 190,-85 210,-85 ; 190,650 210,650 ; 235,-85 255,-85 ; 235,650 255,650 ; 280,-85 300,-85 ; 280,650 300,650 ; 325,-85 345,-85 ; 325,650 345,650 ; 370,-85 390,-85 ; 370,650 390,650 ; 415,-85 435,-85 ; 415,650 435,650 ; 460,-85 480,-85 ; 460,650 480,650 ; 505,-85 525,-85 ; 505,650 525,650 ; 530,-80 530,650
  text "1" at 5,-100 h25
  text "2" at 75,-100 h25
  text "3" at 145,-100 h25
  text "4" at 220,-100 h25
  text "5" at 290,-100 h25
  text "6" at 360,-100 h25
  text "7" at 430,-100 h25
  text "8" at 500,-100 h25
  text ".Designator" at 54.67,-185.33 h31
Mechanical 16:
  pour cut-out: -79.92,-82.68 531.89,-82.68 531.89,649.61 -79.92,649.61
  region: -60,-82.68 531.89,-82.68 531.89,649.61 -60,649.61
  text "G5" at 283.46,405.2 h25
  text "H6" at 354.33,476.06 h25
  text "H5" at 283.46,476.06 h25
  text "B6" at 354.33,50.87 h25
  text "C6" at 354.33,121.73 h25
  text "G6" at 354.33,405.2 h25
  text "A4" at 212.6,-20 h25
  text "A5" at 283.46,-20 h25
  text "A6" at 354.33,-20 h25
  text "A8" at 496.06,-20 h25
  text "B8" at 496.06,50.87 h25
  text "C7" at 425.2,121.73 h25
  text "D4" at 212.6,192.6 h25
  text "D5" at 283.46,192.6 h25
  text "D6" at 354.33,192.6 h25
  text "D7" at 425.2,192.6 h25
  text "E8" at 496.06,263.46 h25
  text "F4" at 212.6,334.33 h25
  text "F5" at 283.46,334.33 h25
  text "F6" at 354.33,334.33 h25
  text "F8" at 496.06,334.33 h25
  text "G7" at 425.2,405.2 h25
  text "H7" at 425.2,476.06 h25
  text "J4" at 212.6,546.93 h25
  text "J5" at 283.46,546.93 h25
  text "J6" at 354.33,546.93 h25
  text "A1" at 0,-20 h25
  text "A2" at 70.87,-20 h25
  text "B1" at 0,50.87 h25
  text "B2" at 70.87,50.87 h25
  text "C1" at 0,121.73 h25
  text "C2" at 70.87,121.73 h25
  text "D1" at 0,192.6 h25
  text "D2" at 70.87,192.6 h25
  text "F1" at 0,334.33 h25
  text "F2" at 70.87,334.33 h25
  text "G1" at 0,405.2 h25
  text "G2" at 70.87,405.2 h25
  text "H1" at 0,476.06 h25
  text "H2" at 70.87,476.06 h25
  text "J1" at 0,546.93 h25
  text "J2" at 70.87,546.93 h25
  text "E5" at 283.46,263.46 h25
  text "C5" at 283.46,121.73 h25
  text "H4" at 212.6,476.06 h25
  text "G4" at 212.6,405.2 h25
  text "C4" at 212.6,121.73 h25
  text "B4" at 212.6,50.87 h25
  text "B5" at 283.46,50.87 h25
  text "J8" at 496.06,546.93 h25
  text "J7" at 425.2,546.93 h25
  text "J3" at 141.73,546.93 h25
  text "H8" at 496.06,476.06 h25
  text "H3" at 141.73,476.06 h25
  text "G8" at 496.06,405.2 h25
  text "G3" at 141.73,405.2 h25
  text "F7" at 425.2,334.33 h25
  text "F3" at 141.73,334.33 h25
  text "E7" at 425.2,263.46 h25
  text "E6" at 354.33,263.46 h25
  text "E4" at 212.6,263.46 h25
  text "E3" at 141.73,263.46 h25
  text "E2" at 70.87,263.46 h25
  text "E1" at 0,263.46 h25
  text "D8" at 496.06,192.6 h25
  text "D3" at 141.73,192.6 h25
  text "C8" at 496.06,121.73 h25
  text "C3" at 141.73,121.73 h25
  text "B7" at 425.2,50.87 h25
  text "B3" at 141.73,50.87 h25
  text "A7" at 425.2,-20 h25
  text "A3" at 141.73,-20 h25
Mechanical 18:
  text ".Designator" at 223,328 h31
3D body: height 150, standoff 0, extent -60,-82.68 531.89,649.61

## VPX_J1_1410140-1 [mil] "VPX_J1_1410140-1"
pads (144):
  round 34 hole 21: A1(0,0) A2(70.87,0) A3(141.73,0) A4(212.6,0) A5(283.46,0) A6(354.33,0) A7(425.2,0) A8(496.06,0) A9(566.93,0) A10(637.79,0) A11(708.66,0) A12(779.53,0) A13(850.39,0) A14(921.26,0) A15(992.13,0) A16(1062.99,0) B1(0,70.87) B2(70.87,70.87) B3(141.73,70.87) B4(212.6,70.87) B5(283.46,70.87) B6(354.33,70.87) B7(425.2,70.87) B8(496.06,70.87) B9(566.93,70.87) B10(637.79,70.87) B11(708.66,70.87) B12(779.53,70.87) B13(850.39,70.87) B14(921.26,70.87) B15(992.13,70.87) B16(1062.99,70.87) C1(0,141.73) C2(70.87,141.73) C3(141.73,141.73) C4(212.6,141.73) C5(283.46,141.73) C6(354.33,141.73) C7(425.2,141.73) C8(496.06,141.73) C9(566.93,141.73) C10(637.79,141.73) C11(708.66,141.73) C12(779.53,141.73) C13(850.39,141.73) C14(921.26,141.73) C15(992.13,141.73) C16(1062.99,141.73) D1(0,212.6) D2(70.87,212.6) D3(141.73,212.6) D4(212.6,212.6) D5(283.46,212.6) D6(354.33,212.6) D7(425.2,212.6) D8(496.06,212.6) D9(566.93,212.6) D10(637.79,212.6) D11(708.66,212.6) D12(779.53,212.6) D13(850.39,212.6) D14(921.26,212.6) D15(992.13,212.6) D16(1062.99,212.6) E1(0,283.46) E2(70.87,283.46) E3(141.73,283.46) E4(212.6,283.46) E5(283.46,283.46) E6(354.33,283.46) E7(425.2,283.46) E8(496.06,283.46) E9(566.93,283.46) E10(637.79,283.46) E11(708.66,283.46) E12(779.53,283.46) E13(850.39,283.46) E14(921.26,283.46) E15(992.13,283.46) E16(1062.99,283.46) F1(0,354.33) F2(70.87,354.33) F3(141.73,354.33) F4(212.6,354.33) F5(283.46,354.33) F6(354.33,354.33) F7(425.2,354.33) F8(496.06,354.33) F9(566.93,354.33) F10(637.79,354.33) F11(708.66,354.33) F12(779.53,354.33) F13(850.39,354.33) F14(921.26,354.33) F15(992.13,354.33) F16(1062.99,354.33) G1(0,425.2) G2(70.87,425.2) G3(141.73,425.2) G4(212.6,425.2) G5(283.46,425.2) G6(354.33,425.2) G7(425.2,425.2) G8(496.06,425.2) G9(566.93,425.2) G10(637.79,425.2) G11(708.66,425.2) G12(779.53,425.2) G13(850.39,425.2) G14(921.26,425.2) G15(992.13,425.2) G16(1062.99,425.2) H1(0,496.06) H2(70.87,496.06) H3(141.73,496.06) H4(212.6,496.06) H5(283.46,496.06) H6(354.33,496.06) H7(425.2,496.06) H8(496.06,496.06) H9(566.93,496.06) H10(637.79,496.06) H11(708.66,496.06) H12(779.53,496.06) H13(850.39,496.06) H14(921.26,496.06) H15(992.13,496.06) H16(1062.99,496.06) J1(0,566.93) J2(70.87,566.93) J3(141.73,566.93) J4(212.6,566.93) J5(283.46,566.93) J6(354.33,566.93) J7(425.2,566.93) J8(496.06,566.93) J9(566.93,566.93) J10(637.79,566.93) J11(708.66,566.93) J12(779.53,566.93) J13(850.39,566.93) J14(921.26,566.93) J15(992.13,566.93) J16(1062.99,566.93)
Top Overlay:
  lines w7.87: -35.04,-82.68 1098.82,-82.68 ; -35.04,-82.68 -6.3,-82.68 -6.3,-43.31 -35.04,-43.31 -35.04,649.61 ; -35.04,-82.68 -35.04,-153.54 1098.82,-153.54 1098.82,-82.68 ; -35.04,649.61 -35.04,720.47 1098.82,720.47 1098.82,649.61 ; -35.04,649.61 1098.82,649.61 ; 1098.82,-82.68 1127.56,-82.68 1127.56,-43.31 1098.82,-43.31 1098.82,-25 1098.82,649.61
  lines w19.68: -12,-104 -10,-104 -9,-105
  text ".Designator" at 229.67,-189.67 h31
  text "1" at 0,-75 h25
  text "16" at 1052,-76 h25
  text "1410140-1" at 676,704 h31
Bottom Overlay:
  lines w8: -10,-85 -35,-85 -35,650 -10,650 ; 10,-85 30,-85 ; 10,650 30,650 ; 50,-85 70,-85 ; 50,650 70,650 ; 90,-85 110,-85 ; 90,650 110,650 ; 130,-85 150,-85 ; 130,650 150,650 ; 170,-85 190,-85 ; 170,650 190,650 ; 210,-85 230,-85 ; 210,650 230,650 ; 250,-85 270,-85 ; 250,650 270,650 ; 290,-85 310,-85 ; 290,650 310,650 ; 330,-85 350,-85 ; 330,650 350,650 ; 370,-85 390,-85 ; 370,650 390,650 ; 410,-85 430,-85 ; 410,650 430,650 ; 450,-85 470,-85 ; 450,650 470,650 ; 490,-85 510,-85 ; 490,650 510,650 ; 530,-85 550,-85 ; 530,650 550,650 ; 570,-85 590,-85 ; 570,650 590,650 ; 610,-85 630,-85 ; 610,650 630,650 ; 650,-85 670,-85 ; 650,650 670,650 ; 690,-85 710,-85 ; 690,650 710,650 ; 730,-85 750,-85 ; 730,650 750,650 ; 770,-85 790,-85 ; 770,650 790,650 ; 810,-85 830,-85 ; 810,650 830,650 ; 850,-85 870,-85 ; 850,650 870,650 ; 890,-85 910,-85 ; 890,650 910,650 ; 930,-85 950,-85 ; 930,650 950,650 ; 970,-85 990,-85 ; 970,650 990,650 ; 1010,-85 1030,-85 ; 1010,650 1030,650 ; 1050,-85 1070,-85 ; 1050,650 1070,650 ; 1090,-85 1100,-85 1100,650 1090,650
  text "1" at 10,-100 h25
  text "2" at 85,-100 h25
  text "4" at 226.73,-100 h25
  text "3" at 151.73,-100 h25
  text "6" at 368.46,-100 h25
  text "5" at 293.46,-100 h25
  text "7" at 435.2,-100 h25
  text "8" at 510.2,-100 h25
  text "10" at 651.93,-100 h25
  text "9" at 576.93,-100 h25
  text "11" at 718.66,-100 h25
  text "12" at 793.66,-100 h25
  text "13" at 860.39,-100 h25
  text "14" at 935.39,-100 h25
  text "16" at 1077.13,-100 h25
  text "15" at 1002.13,-100 h25
  text ".Designator" at 449.67,-190.33 h31
Mechanical 16:
  pour cut-out: -35.04,-82.68 1098.82,-82.68 1098.82,649.61 -35.04,649.61
  region: -20,-82.68 -20,649.61 1090,649.61 1090,-82.68
  text "B3" at 141.73,50.87 h25
  text "D8" at 496.06,192.6 h25
  text "C8" at 496.06,121.73 h25
  text "H8" at 496.06,476.06 h25
  text "G8" at 496.06,405.2 h25
  text "B7" at 425.2,50.87 h25
  text "A7" at 425.2,-20 h25
  text "F7" at 425.2,334.33 h25
  text "E7" at 425.2,263.46 h25
  text "D6" at 354.33,192.6 h25
  text "C6" at 354.33,121.73 h25
  text "H6" at 354.33,476.06 h25
  text "G6" at 354.33,405.2 h25
  text "B5" at 283.46,50.87 h25
  text "A5" at 283.46,-20 h25
  text "F5" at 283.46,334.33 h25
  text "E5" at 283.46,263.46 h25
  text "D4" at 212.6,192.6 h25
  text "C4" at 212.6,121.73 h25
  text "H4" at 212.6,476.06 h25
  text "G4" at 212.6,405.2 h25
  text "A3" at 141.73,-20 h25
  text "F3" at 141.73,334.33 h25
  text "E3" at 141.73,263.46 h25
  text "D2" at 70.87,192.6 h25
  text "C2" at 70.87,121.73 h25
  text "H2" at 70.87,476.06 h25
  text "G2" at 70.87,405.2 h25
  text "B1" at 0,50.87 h25
  text "A1" at 0,-20 h25
  text "F1" at 0,334.33 h25
  text "E1" at 0,263.46 h25
  text "G16" at 1062.99,395.2 h25
  text "A15" at 992.13,-30 h25
  text "D16" at 1062.99,182.6 h25
  text "E15" at 992.13,253.47 h25
  text "H16" at 1062.99,466.06 h25
  text "F15" at 992.13,324.33 h25
  text "C16" at 1062.99,111.73 h25
  text "B15" at 992.13,40.87 h25
  text "J16" at 1062.99,536.93 h25
  text "J14" at 921.26,536.93 h25
  text "J12" at 779.53,536.93 h25
  text "J10" at 637.79,536.93 h25
  text "J8" at 496.06,546.93 h25
  text "J6" at 354.33,546.93 h25
  text "J4" at 212.6,546.93 h25
  text "J2" at 70.87,546.93 h25
  text "H15" at 992.13,466.06 h25
  text "H13" at 850.39,466.06 h25
  text "H11" at 708.66,466.06 h25
  text "H9" at 566.93,476.06 h25
  text "H7" at 425.2,476.06 h25
  text "H5" at 283.46,476.06 h25
  text "H3" at 141.73,476.06 h25
  text "H1" at 0,476.06 h25
  text "G15" at 992.13,395.2 h25
  text "G13" at 850.39,395.2 h25
  text "G11" at 708.66,395.2 h25
  text "G9" at 566.93,405.2 h25
  text "G7" at 425.2,405.2 h25
  text "G5" at 283.46,405.2 h25
  text "G3" at 141.73,405.2 h25
  text "G1" at 0,405.2 h25
  text "F16" at 1062.99,324.33 h25
  text "F14" at 921.26,324.33 h25
  text "F12" at 779.53,324.33 h25
  text "F10" at 637.79,324.33 h25
  text "F8" at 496.06,334.33 h25
  text "F6" at 354.33,334.33 h25
  text "F4" at 212.6,334.33 h25
  text "F2" at 70.87,334.33 h25
  text "E16" at 1062.99,253.47 h25
  text "E14" at 921.26,253.47 h25
  text "E12" at 779.53,253.47 h25
  text "E10" at 637.79,253.47 h25
  text "E8" at 496.06,263.46 h25
  text "E6" at 354.33,263.46 h25
  text "E4" at 212.6,263.46 h25
  text "E2" at 70.87,263.46 h25
  text "D15" at 992.13,182.6 h25
  text "D13" at 850.39,182.6 h25
  text "D11" at 708.66,182.6 h25
  text "D9" at 566.93,192.6 h25
  text "D7" at 425.2,192.6 h25
  text "D5" at 283.46,192.6 h25
  text "D3" at 141.73,192.6 h25
  text "D1" at 0,192.6 h25
  text "C15" at 992.13,111.73 h25
  text "C13" at 850.39,111.73 h25
  text "C11" at 708.66,111.73 h25
  text "C9" at 566.93,121.73 h25
  text "C7" at 425.2,121.73 h25
  text "C5" at 283.46,121.73 h25
  text "C3" at 141.73,121.73 h25
  text "C1" at 0,121.73 h25
  text "B16" at 1062.99,40.87 h25
  text "B14" at 921.26,40.87 h25
  text "B12" at 779.53,40.87 h25
  text "B10" at 637.79,40.87 h25
  text "B8" at 496.06,50.87 h25
  text "B6" at 354.33,50.87 h25
  text "B4" at 212.6,50.87 h25
  text "B2" at 70.87,50.87 h25
  text "A16" at 1062.99,-30 h25
  text "A14" at 921.26,-30 h25
  text "A12" at 779.53,-30 h25
  text "A10" at 637.79,-30 h25
  text "A8" at 496.06,-20 h25
  text "A6" at 354.33,-20 h25
  text "A4" at 212.6,-20 h25
  text "A2" at 70.87,-20 h25
  text "D12" at 779.53,182.6 h25
  text "C12" at 779.53,111.73 h25
  text "H12" at 779.53,466.06 h25
  text "G12" at 779.53,395.2 h25
  text "B11" at 708.66,40.87 h25
  text "A11" at 708.66,-30 h25
  text "F11" at 708.66,324.33 h25
  text "E11" at 708.66,253.47 h25
  text "D10" at 637.79,182.6 h25
  text "C10" at 637.79,111.73 h25
  text "H10" at 637.79,466.06 h25
  text "G10" at 637.79,395.2 h25
  text "B9" at 566.93,50.87 h25
  text "A9" at 566.93,-20 h25
  text "F9" at 566.93,334.33 h25
  text "D14" at 921.26,182.6 h25
  text "E9" at 566.93,263.46 h25
  text "C14" at 921.26,111.73 h25
  text "H14" at 921.26,466.06 h25
  text "G14" at 921.26,395.2 h25
  text "B13" at 850.39,40.87 h25
  text "J15" at 992.13,536.93 h25
  text "A13" at 850.39,-30 h25
  text "F13" at 850.39,324.33 h25
  text "J13" at 850.39,536.93 h25
  text "E13" at 850.39,253.47 h25
  text "J11" at 708.66,536.93 h25
  text "J9" at 566.93,546.93 h25
  text "J7" at 425.2,546.93 h25
  text "J5" at 283.46,546.93 h25
  text "J3" at 141.73,546.93 h25
  text "J1" at 0,546.93 h25
3D body: height 150, standoff 0, extent -20,-82.68 1090,649.61

## VPX_J1_1410142-1 [mil] "VPX_J1_1410142-1"
pads (145):
  round 45 hole 55: " "(1157.09,177.16)
  round 34 hole 21: A1(0,0) A2(70.87,0) A3(141.73,0) A4(212.6,0) A5(283.46,0) A6(354.33,0) A7(425.2,0) A8(496.06,0) A9(566.93,0) A10(637.79,0) A11(708.66,0) A12(779.53,0) A13(850.39,0) A14(921.26,0) A15(992.13,0) A16(1062.99,0) B1(0,70.87) B2(70.87,70.87) B3(141.73,70.87) B4(212.6,70.87) B5(283.46,70.87) B6(354.33,70.87) B7(425.2,70.87) B8(496.06,70.87) B9(566.93,70.87) B10(637.79,70.87) B11(708.66,70.87) B12(779.53,70.87) B13(850.39,70.87) B14(921.26,70.87) B15(992.13,70.87) B16(1062.99,70.87) C1(0,141.73) C2(70.87,141.73) C3(141.73,141.73) C4(212.6,141.73) C5(283.46,141.73) C6(354.33,141.73) C7(425.2,141.73) C8(496.06,141.73) C9(566.93,141.73) C10(637.79,141.73) C11(708.66,141.73) C12(779.53,141.73) C13(850.39,141.73) C14(921.26,141.73) C15(992.13,141.73) C16(1062.99,141.73) D1(0,212.6) D2(70.87,212.6) D3(141.73,212.6) D4(212.6,212.6) D5(283.46,212.6) D6(354.33,212.6) D7(425.2,212.6) D8(496.06,212.6) D9(566.93,212.6) D10(637.79,212.6) D11(708.66,212.6) D12(779.53,212.6) D13(850.39,212.6) D14(921.26,212.6) D15(992.13,212.6) D16(1062.99,212.6) E1(0,283.46) E2(70.87,283.46) E3(141.73,283.46) E4(212.6,283.46) E5(283.46,283.46) E6(354.33,283.46) E7(425.2,283.46) E8(496.06,283.46) E9(566.93,283.46) E10(637.79,283.46) E11(708.66,283.46) E12(779.53,283.46) E13(850.39,283.46) E14(921.26,283.46) E15(992.13,283.46) E16(1062.99,283.46) F1(0,354.33) F2(70.87,354.33) F3(141.73,354.33) F4(212.6,354.33) F5(283.46,354.33) F6(354.33,354.33) F7(425.2,354.33) F8(496.06,354.33) F9(566.93,354.33) F10(637.79,354.33) F11(708.66,354.33) F12(779.53,354.33) F13(850.39,354.33) F14(921.26,354.33) F15(992.13,354.33) F16(1062.99,354.33) G1(0,425.2) G2(70.87,425.2) G3(141.73,425.2) G4(212.6,425.2) G5(283.46,425.2) G6(354.33,425.2) G7(425.2,425.2) G8(496.06,425.2) G9(566.93,425.2) G10(637.79,425.2) G11(708.66,425.2) G12(779.53,425.2) G13(850.39,425.2) G14(921.26,425.2) G15(992.13,425.2) G16(1062.99,425.2) H1(0,496.06) H2(70.87,496.06) H3(141.73,496.06) H4(212.6,496.06) H5(283.46,496.06) H6(354.33,496.06) H7(425.2,496.06) H8(496.06,496.06) H9(566.93,496.06) H10(637.79,496.06) H11(708.66,496.06) H12(779.53,496.06) H13(850.39,496.06) H14(921.26,496.06) H15(992.13,496.06) H16(1062.99,496.06) J1(0,566.93) J2(70.87,566.93) J3(141.73,566.93) J4(212.6,566.93) J5(283.46,566.93) J6(354.33,566.93) J7(425.2,566.93) J8(496.06,566.93) J9(566.93,566.93) J10(637.79,566.93) J11(708.66,566.93) J12(779.53,566.93) J13(850.39,566.93) J14(921.26,566.93) J15(992.13,566.93) J16(1062.99,566.93)
Top Overlay:
  lines w7.87: -32.75,-82.68 1194.09,-82.68 ; -35.04,649.61 -35.04,-43.31 -6.3,-43.31 -6.3,-82.68 -35.04,-82.68 -35.04,-99 -35.04,-153.54 1194.09,-153.54 1194.09,-82.68 ; -35.04,649.61 1194.09,649.61 ; -35.04,649.61 -35.04,720.47 1194.09,720.47 1194.09,649.61 ; 1194.09,-82.68 1194.09,649.61
  lines w19.68: -12,-109 -10,-109 -9,-110
  text ".Designator" at 204.67,-198.67 h31
  text "1" at 0,-75 h25
  text "16" at 1052,-76 h25
  text "1410142-1" at 455,702 h31
Bottom Overlay:
  lines w8: -10,-85 -35,-85 -35,650 -10,650 ; 15,-85 40,-85 ; 15,650 40,650 ; 65,-85 90,-85 ; 65,650 90,650 ; 115,-85 140,-85 ; 115,650 140,650 ; 165,-85 190,-85 ; 165,650 190,650 ; 215,-85 240,-85 ; 215,650 240,650 ; 265,-85 290,-85 ; 265,650 290,650 ; 315,-85 340,-85 ; 315,650 340,650 ; 365,-85 390,-85 ; 365,650 390,650 ; 415,-85 440,-85 ; 415,650 440,650 ; 465,-85 490,-85 ; 465,650 490,650 ; 515,-85 540,-85 ; 515,650 540,650 ; 565,-85 590,-85 ; 565,650 590,650 ; 615,-85 640,-85 ; 615,650 640,650 ; 665,-85 690,-85 ; 665,650 690,650 ; 715,-85 740,-85 ; 715,650 740,650 ; 765,-85 790,-85 ; 765,650 790,650 ; 815,-85 840,-85 ; 815,650 840,650 ; 865,-85 890,-85 ; 865,650 890,650 ; 915,-85 940,-85 ; 915,650 940,650 ; 965,-85 990,-85 ; 965,650 990,650 ; 1015,-85 1040,-85 ; 1015,650 1040,650 ; 1065,-85 1090,-85 ; 1065,650 1090,650 ; 1120,-85 1145,-85 ; 1120,650 1145,650 ; 1170,-85 1195,-85 1195,650 1170,650
  text "J" at 1120,571.93 h25
  text "G" at 1120,430.2 h25
  text "H" at 1120,500.2 h25
  text "F" at 1120,358.46 h25
  text "E" at 1120,288.46 h25
  text "D" at 1120,216.73 h25
  text "C" at 1120,146.73 h25
  text "B" at 1120,75 h25
  text "A" at 1120,5 h25
  text "16" at 1072.13,-100 h25
  text "14" at 930.39,-100 h25
  text "15" at 1002.13,-100 h25
  text "12" at 788.66,-100 h25
  text "11" at 718.66,-100 h25
  text "13" at 860.39,-100 h25
  text "9" at 576.93,-100 h25
  text "10" at 646.93,-100 h25
  text "8" at 505.2,-100 h25
  text "7" at 435.2,-100 h25
  text "5" at 293.46,-100 h25
  text "6" at 363.46,-100 h25
  text "3" at 151.73,-100 h25
  text "4" at 221.73,-100 h25
  text "2" at 80,-100 h25
  text "1" at 10,-100 h25
Mechanical 16:
  pour cut-out: -35.04,-82.68 1194.09,-82.68 1194.09,649.61 -35.04,649.61
  region: -35.04,-82.68 1186.22,-82.68 1186.22,649.61 -35.04,649.61
  text "G12" at 779.53,395.2 h25
  text "D12" at 779.53,182.6 h25
  text "C12" at 779.53,111.73 h25
  text "H12" at 779.53,466.06 h25
  text "F13" at 850.39,324.33 h25
  text "E13" at 850.39,253.47 h25
  text "B13" at 850.39,40.87 h25
  text "A13" at 850.39,-30 h25
  text "H14" at 921.26,466.06 h25
  text "G14" at 921.26,395.2 h25
  text "D14" at 921.26,182.6 h25
  text "C14" at 921.26,111.73 h25
  text "F15" at 992.13,324.33 h25
  text "E15" at 992.13,253.47 h25
  text "B15" at 992.13,40.87 h25
  text "A15" at 992.13,-30 h25
  text "H16" at 1062.99,466.06 h25
  text "G16" at 1062.99,395.2 h25
  text "D16" at 1062.99,182.6 h25
  text "C16" at 1062.99,111.73 h25
  text "J16" at 1062.99,536.93 h25
  text "J14" at 921.26,536.93 h25
  text "J12" at 779.53,536.93 h25
  text "J10" at 637.79,536.93 h25
  text "J8" at 496.06,546.93 h25
  text "J6" at 354.33,546.93 h25
  text "J4" at 212.6,546.93 h25
  text "J2" at 70.87,546.93 h25
  text "H15" at 992.13,466.06 h25
  text "H13" at 850.39,466.06 h25
  text "H11" at 708.66,466.06 h25
  text "H9" at 566.93,476.06 h25
  text "H7" at 425.2,476.06 h25
  text "H5" at 283.46,476.06 h25
  text "H3" at 141.73,476.06 h25
  text "H1" at 0,476.06 h25
  text "G15" at 992.13,395.2 h25
  text "G13" at 850.39,395.2 h25
  text "G11" at 708.66,395.2 h25
  text "G9" at 566.93,405.2 h25
  text "G7" at 425.2,405.2 h25
  text "G5" at 283.46,405.2 h25
  text "G3" at 141.73,405.2 h25
  text "G1" at 0,405.2 h25
  text "F16" at 1062.99,324.33 h25
  text "F14" at 921.26,324.33 h25
  text "F12" at 779.53,324.33 h25
  text "F10" at 637.79,324.33 h25
  text "F8" at 496.06,334.33 h25
  text "F6" at 354.33,334.33 h25
  text "F4" at 212.6,334.33 h25
  text "F2" at 70.87,334.33 h25
  text "E16" at 1062.99,253.47 h25
  text "E14" at 921.26,253.47 h25
  text "E12" at 779.53,253.47 h25
  text "E10" at 637.79,253.47 h25
  text "E8" at 496.06,263.46 h25
  text "E6" at 354.33,263.46 h25
  text "E4" at 212.6,263.46 h25
  text "E2" at 70.87,263.46 h25
  text "D15" at 992.13,182.6 h25
  text "D13" at 850.39,182.6 h25
  text "D11" at 708.66,182.6 h25
  text "D9" at 566.93,192.6 h25
  text "D7" at 425.2,192.6 h25
  text "D5" at 283.46,192.6 h25
  text "D3" at 141.73,192.6 h25
  text "D1" at 0,192.6 h25
  text "C15" at 992.13,111.73 h25
  text "C13" at 850.39,111.73 h25
  text "C11" at 708.66,111.73 h25
  text "C9" at 566.93,121.73 h25
  text "C7" at 425.2,121.73 h25
  text "C5" at 283.46,121.73 h25
  text "C3" at 141.73,121.73 h25
  text "C1" at 0,121.73 h25
  text "B16" at 1062.99,40.87 h25
  text "B14" at 921.26,40.87 h25
  text "B12" at 779.53,40.87 h25
  text "B10" at 637.79,40.87 h25
  text "B8" at 496.06,50.87 h25
  text "B6" at 354.33,50.87 h25
  text "B4" at 212.6,50.87 h25
  text "B2" at 70.87,50.87 h25
  text "A16" at 1062.99,-30 h25
  text "A14" at 921.26,-30 h25
  text "A12" at 779.53,-30 h25
  text "A10" at 637.79,-30 h25
  text "A8" at 496.06,-20 h25
  text "A6" at 354.33,-20 h25
  text "A4" at 212.6,-20 h25
  text "A2" at 70.87,-20 h25
  text "H2" at 70.87,476.06 h25
  text "G2" at 70.87,405.2 h25
  text "D2" at 70.87,192.6 h25
  text "C2" at 70.87,121.73 h25
  text "F1" at 0,334.33 h25
  text "E1" at 0,263.46 h25
  text "A1" at 0,-20 h25
  text "B1" at 0,50.87 h25
  text "J9" at 566.93,546.93 h25
  text "J7" at 425.2,546.93 h25
  text "J5" at 283.46,546.93 h25
  text "J3" at 141.73,546.93 h25
  text "J15" at 992.13,536.93 h25
  text "J13" at 850.39,536.93 h25
  text "J11" at 708.66,536.93 h25
  text "J1" at 0,546.93 h25
  text "H8" at 496.06,476.06 h25
  text "H6" at 354.33,476.06 h25
  text "H4" at 212.6,476.06 h25
  text "H10" at 637.79,466.06 h25
  text "G8" at 496.06,405.2 h25
  text "G6" at 354.33,405.2 h25
  text "G4" at 212.6,405.2 h25
  text "G10" at 637.79,395.2 h25
  text "F9" at 566.93,334.33 h25
  text "F7" at 425.2,334.33 h25
  text "F5" at 283.46,334.33 h25
  text "F3" at 141.73,334.33 h25
  text "F11" at 708.66,324.33 h25
  text "E9" at 566.93,263.46 h25
  text "E7" at 425.2,263.46 h25
  text "E5" at 283.46,263.46 h25
  text "E3" at 141.73,263.46 h25
  text "E11" at 708.66,253.47 h25
  text "D8" at 496.06,192.6 h25
  text "D6" at 354.33,192.6 h25
  text "D4" at 212.6,192.6 h25
  text "D10" at 637.79,182.6 h25
  text "C8" at 496.06,121.73 h25
  text "C6" at 354.33,121.73 h25
  text "C4" at 212.6,121.73 h25
  text "C10" at 637.79,111.73 h25
  text "B9" at 566.93,50.87 h25
  text "B7" at 425.2,50.87 h25
  text "B5" at 283.46,50.87 h25
  text "B3" at 141.73,50.87 h25
  text "B11" at 708.66,40.87 h25
  text "A9" at 566.93,-20 h25
  text "A7" at 425.2,-20 h25
  text "A5" at 283.46,-20 h25
  text "A3" at 141.73,-20 h25
  text "A11" at 708.66,-30 h25
Mechanical 18:
  text ".Designator" at 504,306 h31
3D body: height 150, standoff 0, extent -35.04,-82.68 1186.22,649.61

## VPX_KEY_315 [mil] "VPX_KEY_315"
pads (6):
  round 106 hole 100: 1(129.93,0) 3(0,129.93) 4(91.87,91.87) 5(91.87,-91.87) 6(0,-129.93)
  round 362 hole 203: 2(0,0)
Top Overlay:
  circle w7.87: c0,0 r188.98
Mechanical 16:
  pour cut-out: 180.31,0 178.76,23.53 174.16,46.67 166.58,69 156.15,90.15 143.05,109.76 127.5,127.5 109.76,143.05 90.15,156.15 69,166.58 46.67,174.16 23.53,178.76 0,180.31 -23.53,178.76 -46.67,174.16 -69,166.58 -90.15,156.15 -109.76,143.05 -127.5,127.5 -143.05,109.76 -156.15,90.15 -166.58,69 -174.16,46.67 -178.76,23.53 -180.31,0 -178.76,-23.53 -174.16,-46.67 -166.58,-69 -156.15,-90.15 -143.05,-109.76 -127.5,-127.5 -109.76,-143.05 -90.15,-156.15 -69,-166.58 -46.67,-174.16 -23.53,-178.76 0,-180.31 23.53,-178.76 46.67,-174.16 69,-166.58 90.15,-156.15 109.76,-143.05 127.5,-127.5 143.05,-109.76 156.15,-90.15 166.58,-69 174.16,-46.67 178.76,-23.53
  pour cut-out: 180.31,0 178.76,23.53 174.16,46.67 166.58,69 156.15,90.15 143.05,109.76 127.5,127.5 109.76,143.05 90.15,156.15 69,166.58 46.67,174.16 23.53,178.76 0,180.31 -23.53,178.76 -46.67,174.16 -69,166.58 -90.15,156.15 -109.76,143.05 -127.5,127.5 -143.05,109.76 -156.15,90.15 -166.58,69 -174.16,46.67 -178.76,23.53 -180.31,0 -178.76,-23.53 -174.16,-46.67 -166.58,-69 -156.15,-90.15 -143.05,-109.76 -127.5,-127.5 -109.76,-143.05 -90.15,-156.15 -69,-166.58 -46.67,-174.16 -23.53,-178.76 0,-180.31 23.53,-178.76 46.67,-174.16 69,-166.58 90.15,-156.15 109.76,-143.05 127.5,-127.5 143.05,-109.76 156.15,-90.15 166.58,-69 174.16,-46.67 178.76,-23.53
  text "2" at -10,0 h25
  text "1" at 119.93,0 h25
  text "4" at 81.87,91.87 h25
  text "3" at -10,129.93 h25
  text "6" at -10,-129.93 h25
  text "5" at 81.87,-91.87 h25
3D body: height 150, standoff 0, extent -180.31,-180.31 180.31,180.31